# Altium footprint library Components - 03.03.23 - 09.08.PcbLib: 1 footprints
Each footprint in its own frame and in the unit in brackets; x right, y up, seen from the top. Pads: shape width x height; smd on the part's side, far side on the other; paste and mask are expansions set on the pad; w line width, h text height; cw(c..) or ccw(c..) is an arc to the next point about the centre after c.
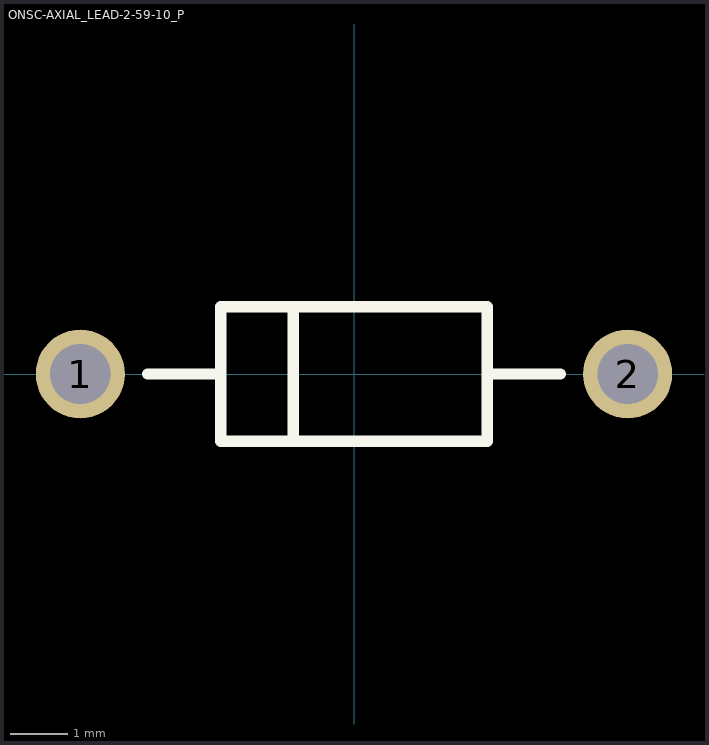
[diagram p0: the footprint, top view; thin cyan lines are the x and y axes]

## ONSC-AXIAL_LEAD-2-59-10_P [mm] "AXIAL, 2-Leads, Diameter 2.35mm"
height 2.35
pads (2):
  round 1.55 hole 1.05: 1(-4.77,0) 2(4.77,0)
Top Overlay:
  lines w0.2: -3.595,0 -2.325,0 ; -1.055,-1.175 -1.055,1.175 ; 2.325,0 3.595,0 ; -2.325,-1.175 -2.325,1.175 2.325,1.175 2.325,-1.175 -2.325,-1.175